# EAGLE library part TSC1031 (library misc)
High-voltage, high-side current sense amplifier
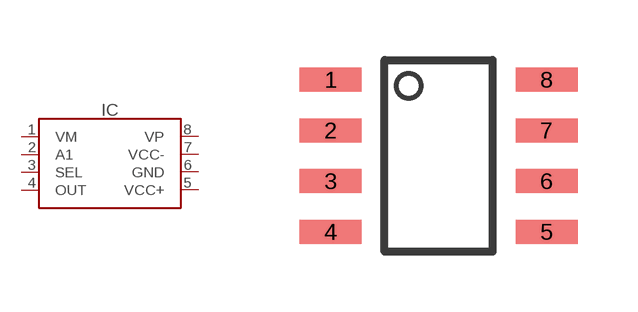
[diagram p30: symbol with the pads of SOIC8; footprint SOIC8]

Designator prefix IC

## TSC1031-SO8 (LCSC#: C2058344; MANF: STMicroelectronics; MANF#: TSC1031IDT)  [SOIC8]
1  VM
2  A1
3  SEL
4  OUT
5  VCC+
6  GND
7  VCC-
8  VP

## Footprint SOIC8 (pad centres in mm)
https://www.ti.com/lit/ds/snvsaq5a/snvsaq5a.pdf?ts=1602424164509
smd 1.55 x 0.6: 1 -2.7,1.905; 2 -2.7,0.635; 3 -2.7,-0.635; 4 -2.7,-1.905; 5 2.7,-1.905; 6 2.7,-0.635; 7 2.7,0.635; 8 2.7,1.905